# Altium schematic symbol library Schlib1.SchLib: 2 symbols
Pins are listed as number, name and electrical type; pins without a type are passive.

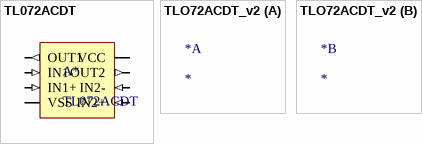
[diagram p0: symbols TL072ACDT to TLO72ACDT_v2]

## TL072ACDT
designator A*
Dual opamp
pins: 1 OUT1 (out), 2 IN1- (in), 3 IN1+ (in), 4 VSS (power), 5 IN2+ (in), 6 IN2- (in), 7 OUT2 (out), 8 VCC (power)

## TLO72ACDT_v2
designator *